# Altium schematic symbol library NCP1729.SchLib: 1 symbol
Pins are listed as number, name and electrical type; pins without a type are passive.

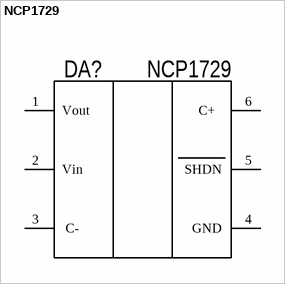
[diagram p0: symbol NCP1729]

## NCP1729
designator DA?  Model: NCP1729  (hidden comment: *)
Switched Capacitor Voltage Inverter; Manufacture: On Semiconductor; ComponentLink1Description: NCP1729; ComponentLink1URL: https://www.onsemi.com/pub/Collateral/NCP1729-D.PDF; Supplier 1: Farnell; Case: SOT23−6; Supplier Part Number 1: 1652414
footprint SOT23-6
pins: 1 Vout "Output Negative Voltage", 2 Vin "Input Positive Voltage", 3  C- "Negative Pin of Switching Capacitor", 4 GND "Ground", 5 SHDN "Shutdown Input (Active Low)", 6 C+   "Positive Pin of Switching Capacitor"